# Altium schematic symbol library LT8650S.SchLib: 2 symbols
Pins are listed as number, name and electrical type; pins without a type are passive.

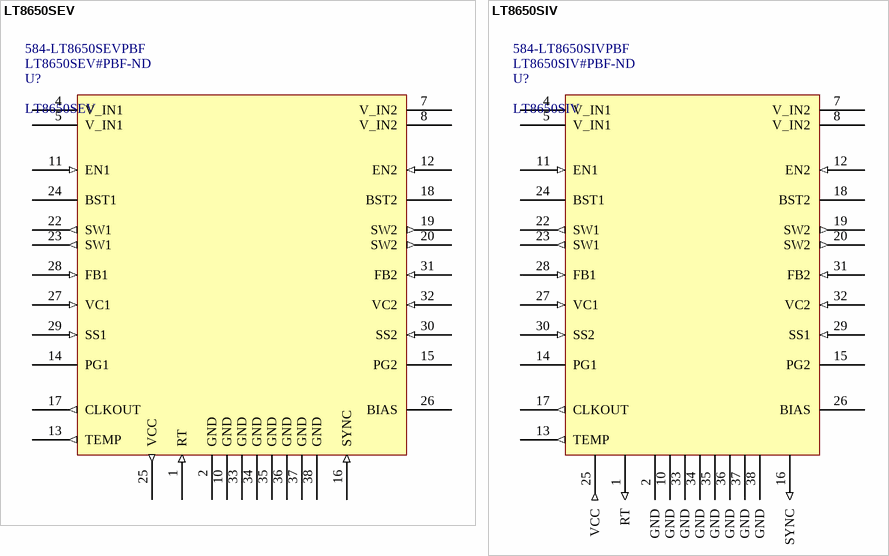
[diagram p0: symbols LT8650SEV to LT8650SIV]

## LT8650SEV
designator U?  Supplier Part Number 1: LT8650SEV#PBF-ND  Supplier Part Number 2: 584-LT8650SEVPBF
Linear Technology / LT8650S / Dual Channel Drop Voltage Switch Regulator; Supplier 1: Digi-Key; Supplier 2: Mouser
footprint LQFN Package 32(28)-Lead (6mm x 4mm x 0.94mm) (Reference LTC DWG #05-08-1665 RevB))
pins: 1 RT (in), 2 GND (power), 4 V_IN1 (power), 5 V_IN1 (power), 7 V_IN2 (power), 8 V_IN2 (power), 10 GND (power), 11 EN1 (in), 12 EN2 (in), 13 TEMP (out), 14 PG1 (oc), 15 PG2 (oc), 16 SYNC (in), 17 CLKOUT (out), 18 BST2, 19 SW2 (out), 20 SW2 (out), 22 SW1 (out), 23 SW1 (out), 24 BST1, 25 VCC (out), 26 BIAS (power), 27 VC1 (in), 28 FB1 (in), 29 SS1 (in), 30 SS2 (in), 31 FB2 (in), 32 VC2 (in), 33 GND (power), 34 GND (power), 35 GND (power), 36 GND (power), 37 GND (power), 38 GND (power)

## LT8650SIV
designator U?  Supplier Part Number 1: LT8650SIV#PBF-ND  Supplier Part Number 2: 584-LT8650SIVPBF
Linear Technology / LT8650S / Dual Channel Drop Voltage Switch Regulator; Supplier 1: Digi-Key; Supplier 2: Mouser
footprint LQFN Package 32(28)-Lead (6mm x 4mm x 0.94mm) (Reference LTC DWG #05-08-1665 RevB))
pins: 1 RT (in), 2 GND (power), 4 V_IN1 (power), 5 V_IN1 (power), 7 V_IN2 (power), 8 V_IN2 (power), 10 GND (power), 11 EN1 (in), 12 EN2 (in), 13 TEMP (out), 14 PG1 (oc), 15 PG2 (oc), 16 SYNC (in), 17 CLKOUT (out), 18 BST2, 19 SW2 (out), 20 SW2 (out), 22 SW1 (out), 23 SW1 (out), 24 BST1, 25 VCC (out), 26 BIAS (power), 27 VC1 (in), 28 FB1 (in), 29 SS1 (in), 30 SS2 (in), 31 FB2 (in), 32 VC2 (in), 33 GND (power), 34 GND (power), 35 GND (power), 36 GND (power), 37 GND (power), 38 GND (power)